# Altium footprint library EspPov.PcbLib: 13 footprints
Each footprint in its own frame and in the unit in brackets; x right, y up, seen from the top. Pads: shape width x height; smd on the part's side, far side on the other; paste and mask are expansions set on the pad; w line width, h text height; cw(c..) or ccw(c..) is an arc to the next point about the centre after c.
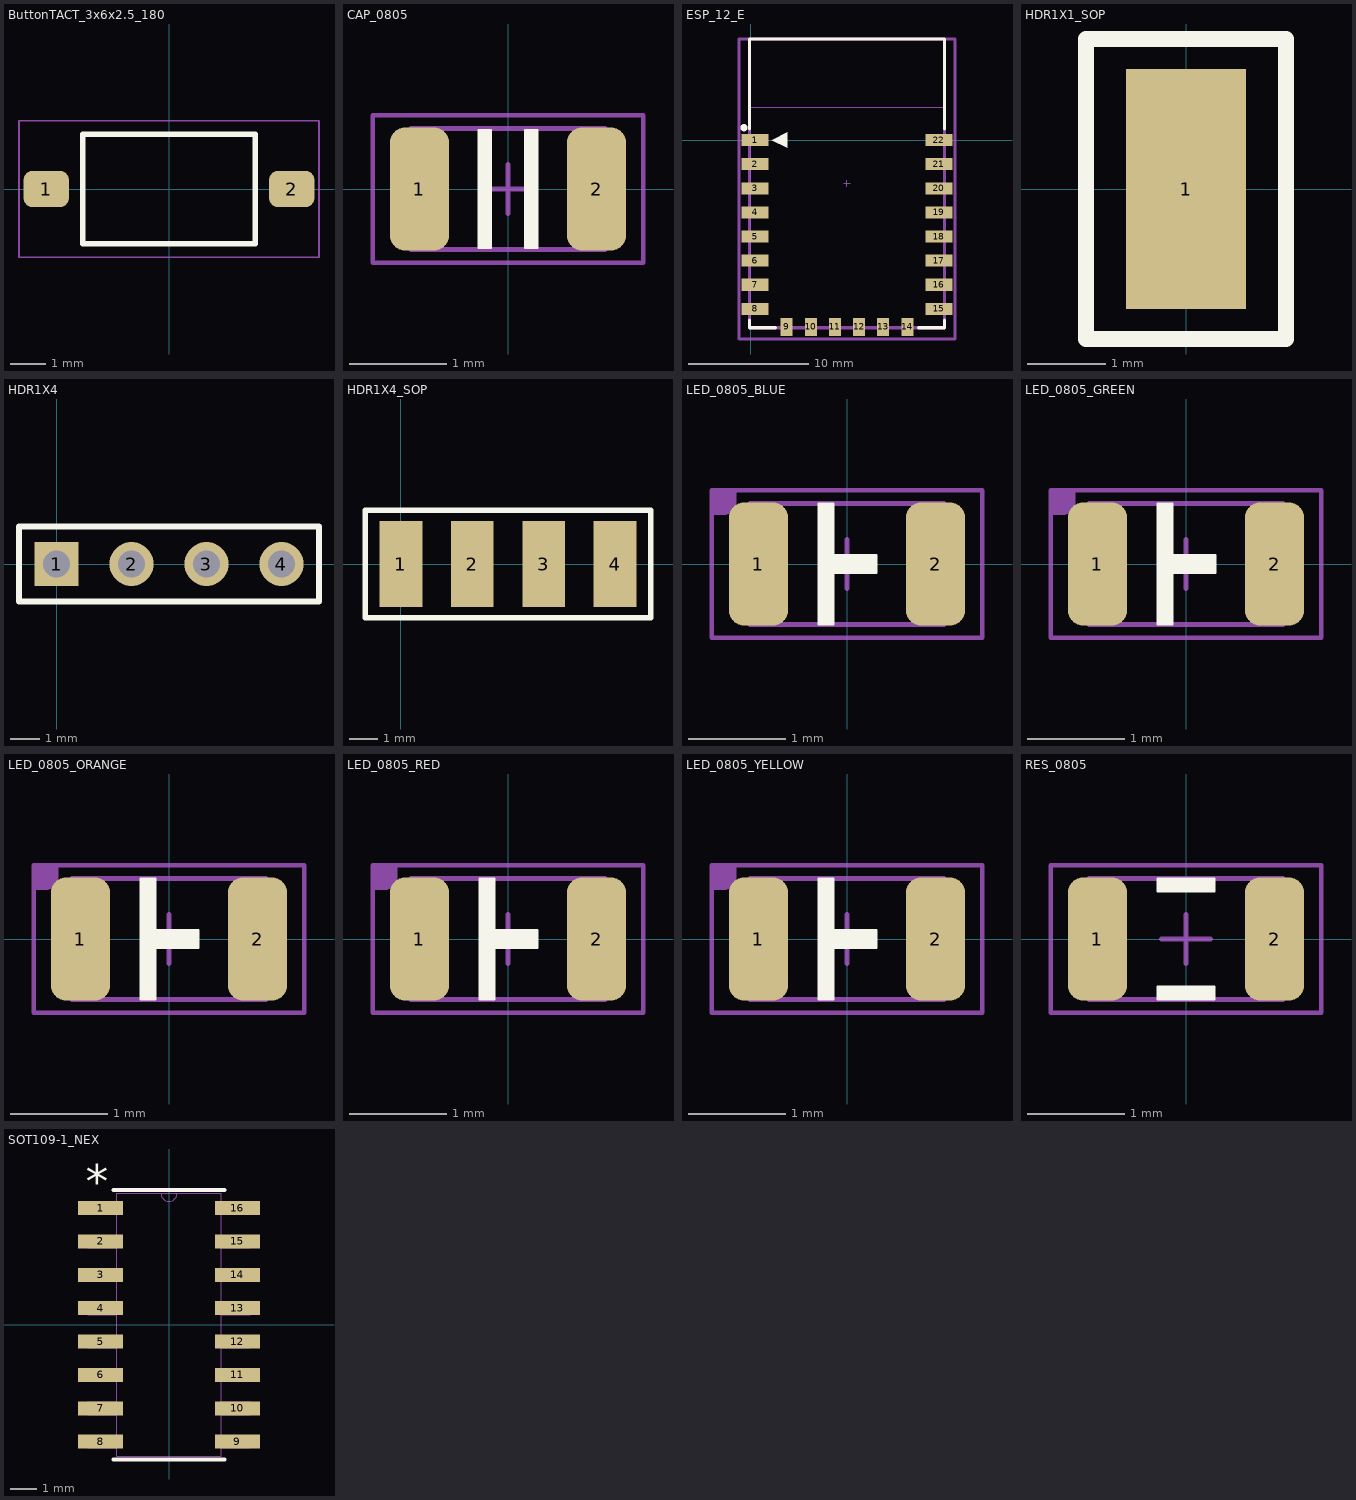
[diagram p0: the footprints below, top view; thin cyan lines are the x and y axes]

## ButtonTACT_3x6x2.5_180 [mil]
pads (2):
  rrect50% 50x40 smd: 1(-135,0) 2(135,0)
Top Overlay:
  lines w6: -95,-60 95,-60 95,60 -95,60 -95,-60
Mechanical 14:
  lines w2: -165,-75 -165,75 165,75 165,-75 -165,-75
3D body "User Library-Tact switch 1181_3.STEP": height 94.49, standoff -3.94, extent -157.48,-70.86 157.49,70.87

## CAP_0805 [mil]
height 47.24
pads (2):
  rrect50% 24x50 smd: 1(-36,0) 2(36,0)
Top Overlay:
  region: -12,24 -7,24 -7,-24 -12,-24
  region: 12,-24 7,-24 7,24 12,24
  lines w1: -12,-24 -7,-24 -7,24 -12,24 -12,-24 ; 7,-24 7,24 12,24 12,-24 7,-24
Mechanical 13:
  lines w2: -10,0 10,0 ; 0,-10 0,10 ; -39.37,-24.61 -39.37,24.61 39.37,24.61 39.37,-24.61 -39.37,-24.61
Mechanical 14:
  lines w2: -55,-30 -55,30 55,30 55,-30 -55,-30
3D body "CAPC2012X10L.step": height 39.37, standoff 0, extent -39.37,-24.6 39.37,24.61

## ESP_12_E [mm] "ESP-12 Wi-Fi Module by AI-Thinker"
height 3.2
pads (22):
  rect 2.25x1 smd: 1(0.375,0) 2(0.375,-2) 3(0.375,-4) 4(0.375,-6) 5(0.375,-8) 6(0.375,-10) 7(0.375,-12) 8(0.375,-14) 15(15.625,-14) 16(15.625,-12) 17(15.625,-10) 18(15.625,-8) 19(15.625,-6) 20(15.625,-4) 21(15.625,-2) 22(15.625,0)
  rect 1x1.5 smd: 9(3,-15.5) 10(5,-15.5) 11(7,-15.5) 12(9,-15.5) 13(11,-15.5) 14(13,-15.5)
Top Overlay:
  circle w0.3: c-0.55,1.025 r0.15
  region: 1.77,0 3.04,-0.635 3.04,0.635
  lines w0.254: -0.084,-14.916 -0.084,-15.568 2.068,-15.568 ; -0.084,0.916 -0.084,8.371 16.084,8.371 16.084,0.916 ; 13.932,-15.568 16.084,-15.568 16.084,-14.916
Mechanical 13:
  lines w0.051: -0.127,2.727 16.129,2.727 16.129,8.382 -0.127,8.382 -0.127,2.727
  lines w0.254: -0.084,-15.568 -0.084,8.371 16.084,8.371 16.084,-15.568 -0.084,-15.568
  text "ANTENNA AREA" at 0.127,7.874 h0.25
  text "CUTOUT POLYGON" at 0.127,7.366 h0.25
Mechanical 15:
  lines w0.1: 7.746,-3.598 8.254,-3.598 ; 8,-3.852 8,-3.344
  lines w0.254: -0.975,-16.5 16.975,-16.5 16.975,8.371 -0.975,8.371 -0.975,-16.5
3D body "ESP_12_E.STEP": height 2.75, standoff 0.04, extent 0.001,-15.491 16.001,8.509

## HDR1X1_SOP [mil]
pads (1):
  rect 60x120 smd: 1(0,0)
Top Overlay:
  lines w7.87: -50,-75 50,-75 50,75 -50,75 -50,-75

## HDR1X4 [mm]
pads (4):
  rect 1.5x1.5 hole 0.9: 1(0,0)
  round 1.5 hole 0.9: 2(2.54,0) 3(5.08,0) 4(7.62,0)
Top Overlay:
  lines w0.2: -1.27,-1.27 8.89,-1.27 8.89,1.27 -1.27,1.27 -1.27,-1.27

## HDR1X4_SOP [mil]
pads (4):
  rect 60x120 smd: 1(0,0) 2(100,0) 3(200,0) 4(300,0)
Top Overlay:
  lines w7.87: -50,-75 -50,75 350,75 350,-75 -50,-75

## LED_0805_BLUE [mil]
height 47.24
pads (2):
  rrect50% 24x50 smd: 1(-36,0) 2(36,0)
Top Overlay:
  region: -11.5,24.5 -5.5,24.5 -5.5,3.5 12,3.5 12,-3.5 -5.5,-3.5 -5.5,-24.5 -11.5,-24.5
  lines w1: -11.5,-24.5 -11.5,24.5 -5.5,24.5 -5.5,3.5 12,3.5 12,-3.5 -5.5,-3.5 -5.5,-24.5 -11.5,-24.5
Mechanical 13:
  lines w2: -10,0 10,0 ; 0,-10 0,10 ; -39.37,-24.61 39.37,-24.61 39.37,24.61 -39.37,24.61 -39.37,-24.61
Mechanical 14:
  region: -55,30 -45,30 -45,25 -45,24.01 -45.76,22.17 -47.17,20.76 -49.01,20 -50,20 -55,20
  lines w2: -55,-30 -55,30 55,30 55,-30 -55,-30
3D body "User Library-led_0805LED0805_blue.STEP": height 43.31, standoff 0, extent -39.76,-24.6 39.77,24.61

## LED_0805_GREEN [mil]
height 47.24
pads (2):
  rrect50% 24x50 smd: 1(-36,0) 2(36,0)
Top Overlay:
  region: -11.5,24.5 -5.5,24.5 -5.5,3.5 12,3.5 12,-3.5 -5.5,-3.5 -5.5,-24.5 -11.5,-24.5
  lines w1: -11.5,-24.5 -11.5,24.5 -5.5,24.5 -5.5,3.5 12,3.5 12,-3.5 -5.5,-3.5 -5.5,-24.5 -11.5,-24.5
Mechanical 13:
  lines w2: -10,0 10,0 ; 0,-10 0,10 ; -39.37,-24.61 39.37,-24.61 39.37,24.61 -39.37,24.61 -39.37,-24.61
Mechanical 14:
  region: -55,30 -45,30 -45,25 -45,24.01 -45.76,22.17 -47.17,20.76 -49.01,20 -50,20 -55,20
  lines w2: -55,-30 -55,30 55,30 55,-30 -55,-30
3D body "User Library-led_0805LED0805_green.STEP": height 43.31, standoff 0, extent -39.76,-24.6 39.77,24.61

## LED_0805_ORANGE [mil]
height 47.24
pads (2):
  rrect50% 24x50 smd: 1(-36,0) 2(36,0)
Top Overlay:
  region: -11.5,24.5 -5.5,24.5 -5.5,3.5 12,3.5 12,-3.5 -5.5,-3.5 -5.5,-24.5 -11.5,-24.5
  lines w1: -11.5,-24.5 -5.5,-24.5 -5.5,-3.5 12,-3.5 12,3.5 -5.5,3.5 -5.5,24.5 -11.5,24.5 -11.5,-24.5
Mechanical 13:
  lines w2: -10,0 10,0 ; 0,-10 0,10 ; -39.37,-24.61 -39.37,24.61 39.37,24.61 39.37,-24.61 -39.37,-24.61
Mechanical 14:
  region: -55,30 -45,30 -45,25 -45,24.01 -45.76,22.17 -47.17,20.76 -49.01,20 -50,20 -55,20
  lines w2: -55,-30 55,-30 55,30 -55,30 -55,-30
3D body "User Library-led_0805LED0805_orange.STEP": height 43.31, standoff 0, extent -39.76,-24.6 39.77,24.61

## LED_0805_RED [mil]
height 47.24
pads (2):
  rrect50% 24x50 smd: 1(-36,0) 2(36,0)
Top Overlay:
  region: -11.5,24.5 -5.5,24.5 -5.5,3.5 12,3.5 12,-3.5 -5.5,-3.5 -5.5,-24.5 -11.5,-24.5
  lines w1: -11.5,-24.5 -5.5,-24.5 -5.5,-3.5 12,-3.5 12,3.5 -5.5,3.5 -5.5,24.5 -11.5,24.5 -11.5,-24.5
Mechanical 13:
  lines w2: -10,0 10,0 ; 0,-10 0,10 ; -39.37,-24.61 -39.37,24.61 39.37,24.61 39.37,-24.61 -39.37,-24.61
Mechanical 14:
  region: -55,30 -45,30 -45,25 -45,24.01 -45.76,22.17 -47.17,20.76 -49.01,20 -50,20 -55,20
  lines w2: -55,-30 55,-30 55,30 -55,30 -55,-30
3D body "User Library-led_0805LED0805_red.STEP": height 43.31, standoff 0, extent -39.76,-24.6 39.77,24.61

## LED_0805_YELLOW [mil]
height 47.24
pads (2):
  rrect50% 24x50 smd: 1(-36,0) 2(36,0)
Top Overlay:
  region: -11.5,24.5 -5.5,24.5 -5.5,3.5 12,3.5 12,-3.5 -5.5,-3.5 -5.5,-24.5 -11.5,-24.5
  lines w1: -11.5,-24.5 -11.5,24.5 -5.5,24.5 -5.5,3.5 12,3.5 12,-3.5 -5.5,-3.5 -5.5,-24.5 -11.5,-24.5
Mechanical 13:
  lines w2: -10,0 10,0 ; 0,-10 0,10 ; -39.37,-24.61 39.37,-24.61 39.37,24.61 -39.37,24.61 -39.37,-24.61
Mechanical 14:
  region: -55,30 -45,30 -45,25 -45,24.01 -45.76,22.17 -47.17,20.76 -49.01,20 -50,20 -55,20
  lines w2: -55,-30 -55,30 55,30 55,-30 -55,-30
3D body "User Library-led_0805LED0805_yellow.STEP": height 43.31, standoff 0, extent -39.76,-24.6 39.77,24.61

## RES_0805 [mil]
height 23.62
pads (2):
  rrect50% 24x50 smd: 1(-36,0) 2(36,0)
Top Overlay:
  region: -11.5,24.5 11.5,24.5 11.5,19.5 -11.5,19.5
  region: 11.5,-24.5 -11.5,-24.5 -11.5,-19.5 11.5,-19.5
  lines w1: -11.5,-24.5 -11.5,-19.5 11.5,-19.5 11.5,-24.5 -11.5,-24.5 ; -11.5,19.5 11.5,19.5 11.5,24.5 -11.5,24.5 -11.5,19.5
Mechanical 13:
  lines w2: -10,0 10,0 ; 0,-10 0,10 ; -39.37,-24.61 -39.37,24.61 39.37,24.61 39.37,-24.61 -39.37,-24.61
Mechanical 14:
  lines w2: -55,-30 55,-30 55,30 -55,30 -55,-30
3D body "RESC2012X06L.step": height 23.62, standoff 0, extent -39.37,-24.6 39.37,24.61

## SOT109-1_NEX [mil]
pads (16):
  rect 67x21 smd paste+0 mask+0: 1(-102.5,175) 2(-102.5,125) 3(-102.5,75) 4(-102.5,25) 5(-102.5,-25) 6(-102.5,-75) 7(-102.5,-125) 8(-102.5,-175) 9(102.5,-175) 10(102.5,-125) 11(102.5,-75) 12(102.5,-25) 13(102.5,25) 14(102.5,75) 15(102.5,125) 16(102.5,175)
Top Overlay:
  lines w6: -83.5,-202 83.5,-202 ; -83.5,202 83.5,202
  text "*" at -125,191 h50
Mechanical 13:
  lines w0: -12,197 ccw(c0,197) 12,197
  lines w1: -122,-184.5 -78.5,-184.5 -78.5,-165.5 -122,-165.5 -122,-184.5 ; -122,-134.5 -78.5,-134.5 -78.5,-115.5 -122,-115.5 -122,-134.5 ; -122,-84.5 -78.5,-84.5 -78.5,-65.5 -122,-65.5 -122,-84.5 ; -122,-34.5 -78.5,-34.5 -78.5,-15.5 -122,-15.5 -122,-34.5 ; -122,15.5 -78.5,15.5 -78.5,34.5 -122,34.5 -122,15.5 ; -122,65.5 -78.5,65.5 -78.5,84.5 -122,84.5 -122,65.5 ; -122,115.5 -78.5,115.5 -78.5,134.5 -122,134.5 -122,115.5 ; -122,165.5 -78.5,165.5 -78.5,184.5 -122,184.5 -122,165.5 ; -78.5,-197 -78.5,197 78.5,197 78.5,-197 -78.5,-197 ; 78.5,-184.5 122,-184.5 122,-165.5 78.5,-165.5 78.5,-184.5 ; 78.5,-134.5 122,-134.5 122,-115.5 78.5,-115.5 78.5,-134.5 ; 78.5,-84.5 122,-84.5 122,-65.5 78.5,-65.5 78.5,-84.5 ; 78.5,-34.5 122,-34.5 122,-15.5 78.5,-15.5 78.5,-34.5 ; 78.5,15.5 122,15.5 122,34.5 78.5,34.5 78.5,15.5 ; 78.5,65.5 122,65.5 122,84.5 78.5,84.5 78.5,65.5 ; 78.5,115.5 122,115.5 122,134.5 78.5,134.5 78.5,115.5 ; 78.5,165.5 122,165.5 122,184.5 78.5,184.5 78.5,165.5
  text "*" at -76,144 h50
3D body: height 10, standoff 0, extent 0,0 10,10
3D body "SOT109-1_NEX.step": height 69.09, standoff 0, extent -122.01,-197 122.01,197.01